# EAGLE library part NRF8001 (library Misaka-IC)
Bluetooth low energy IC Supply voltage: 1.9...3.6V 16MHz crystal oscillator 32.768kHz crystal oscillator
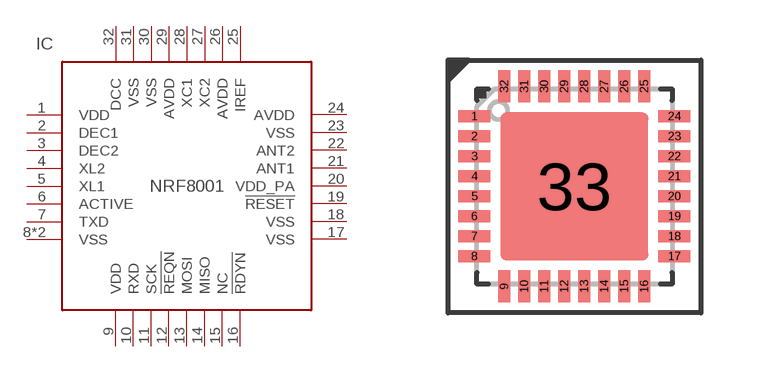
[diagram p2: symbol with the pads of QFN32(5X5); footprint QFN32(5X5)]

Designator prefix IC

## NRF8001  [QFN32(5X5)]
1  VDD  pwr
2  DEC1  pwr
3  DEC2  pwr
4  XL2  out
5  XL1  in
6  ACTIVE  out
7  TXD  out
8  VSS  pwr
9  VDD  pwr
10  RXD  in
11  SCK  in
12  !REQN  in
13  MOSI  in
14  MISO  out
15  NC  nc
16  !RDYN  out
17  VSS  pwr
18  VSS  pwr
19  !RESET  in
20  VDD_PA  pwr
21  ANT1  pas
22  ANT2  pas
23  VSS  pwr
24  AVDD  pwr
25  IREF  out
26  AVDD  pwr
27  XC2  out
28  XC1  in
29  AVDD  pwr
30  VSS  pwr
31  VSS  pwr
32  DCC  pwr
33  VSS  pwr

## Footprint QFN32(5X5) (pad centres in mm)
smd 0.8 x 0.3: 1 -2.5,1.75; 2 -2.5,1.25; 3 -2.5,0.75; 4 -2.5,0.25; 5 -2.5,-0.25; 6 -2.5,-0.75; 7 -2.5,-1.25; 8 -2.5,-1.75; 17 2.5,-1.75; 18 2.5,-1.25; 19 2.5,-0.75; 20 2.5,-0.25; 21 2.5,0.25; 22 2.5,0.75; 23 2.5,1.25; 24 2.5,1.75
smd 0.3 x 0.8: 9 -1.75,-2.5; 10 -1.25,-2.5; 11 -0.75,-2.5; 12 -0.25,-2.5; 13 0.25,-2.5; 14 0.75,-2.5; 15 1.25,-2.5; 16 1.75,-2.5; 25 1.75,2.5; 26 1.25,2.5; 27 0.75,2.5; 28 0.25,2.5; 29 -0.25,2.5; 30 -0.75,2.5; 31 -1.25,2.5; 32 -1.75,2.5
smd 3.7 x 3.7: 33 0,0